# EAGLE library part CD74HC4053PWR (library tms-rgb)
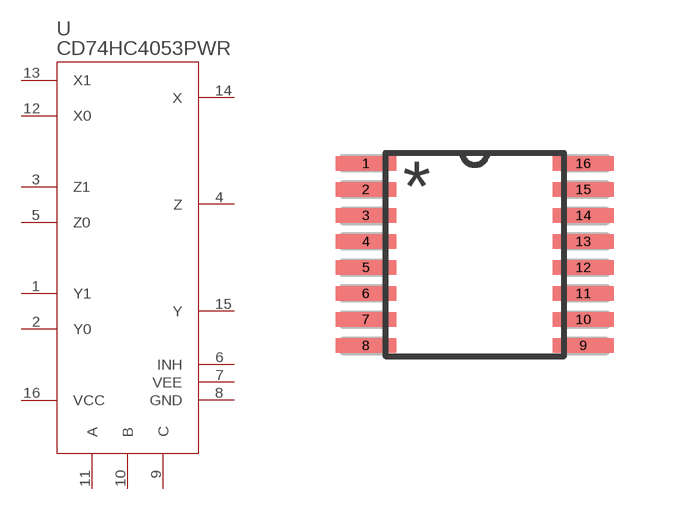
[diagram p0: symbol with the pads of CD74HC4053; footprint CD74HC4053]

Designator prefix U

## CD74HC4053PWR (BUILT_BY: EMA_UL_Team; MANUFACTURER: Texas Instruments; MANUFACTURER_PART_NUMBER: CD74HC4053PWR; VENDOR: Vendor)  [CD74HC4053]
1  Y1
2  Y0
3  Z1
4  Z
5  Z0
6  INH  in
7  VEE  pwr
8  GND  pwr
9  C  in
10  B  in
11  A  in
12  X0
13  X1
14  X
15  Y
16  VCC  pwr

## Footprint CD74HC4053 (pad centres in mm)
smd 1.524 x 0.356: 1 -2.718,2.275; 2 -2.718,1.625; 3 -2.718,0.975; 4 -2.718,0.325; 5 -2.718,-0.325; 6 -2.718,-0.975; 7 -2.718,-1.625; 8 -2.718,-2.275; 9 2.718,-2.275; 10 2.718,-1.625; 11 2.718,-0.975; 12 2.718,-0.325; 13 2.718,0.325; 14 2.718,0.975; 15 2.718,1.625; 16 2.718,2.275